# EAGLE library part MCP1642D-50I_MS (library MCP1642D-50I_MS)
Switching Voltage Regulators Step-up DC/DC Reg 1 MHz, 1.6A, 5Vout Source: Datasheet <http://www.microchip.com/mymicrochip/filehandler.aspx?ddocname=en572899>
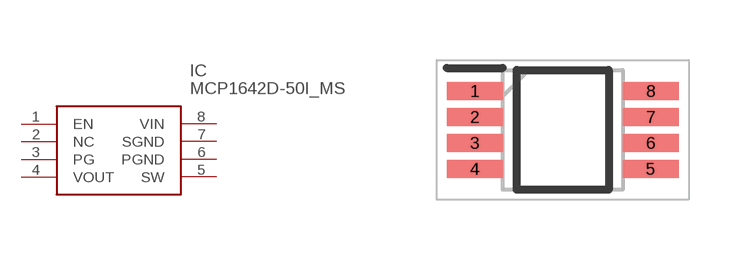
[diagram p0: symbol with the pads of SOP65P490X110-8N; footprint SOP65P490X110-8N]

Designator prefix IC

## MCP1642D-50I_MS (Description: Switching Voltage Regulators Step-up DC/DC Reg 1 MHz, 1.6A, 5Vout; Height: 1.1mm; Manufacturer_Name: Microchip; Manufacturer_Part_Number: MCP1642D-50I/MS; Mouser_Part_Number: 579-MCP1642D-50I/MS; Mouser_Price-Stock: https://www.mouser.co.uk/ProductDetail/Microchip-Technology-Atmel/MCP1642D-50I-MS?qs=kUzwwg2uGjVoXH8JFWZOdQ%3D%3D)  [SOP65P490X110-8N]
1  EN
2  NC  nc
3  PG
4  VOUT
5  SW
6  PGND
7  SGND
8  VIN

## Footprint SOP65P490X110-8N (pad centres in mm)
MSOP-8
smd 1.4 x 0.45: 1 -2.2,0.975; 2 -2.2,0.325; 3 -2.2,-0.325; 4 -2.2,-0.975; 5 2.2,-0.975; 6 2.2,-0.325; 7 2.2,0.325; 8 2.2,0.975